# Altium schematic symbol library ASPI-0315S-220M-T.SchLib: 1 symbol
Pins are listed as number, name and electrical type; pins without a type are passive.

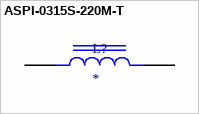
[diagram p0: symbol ASPI-0315S-220M-T]

## ASPI-0315S-220M-T
designator L?
22ÂµH Shielded Wirewound Inductor 400mA 430mOhm Max Nonstandard; MF: Abracon; MP: ASPI-0315S-220M-T; SnapEDA_Link: https://www.snapeda.com/parts/ASPI-0315S-220M-T/Abracon/view-part/?ref=snap; Package: Nonstandard Abracon; Value: *; Check_prices: https://www.snapeda.com/parts/ASPI-0315S-220M-T/Abracon/view-part/?ref=eda
footprint IND_ASPI-0315S-220M-T
pins: 1, 2